# Altium integrated library National Semiconductor LDO.IntLib: 2675 symbols (part 36 of 65)
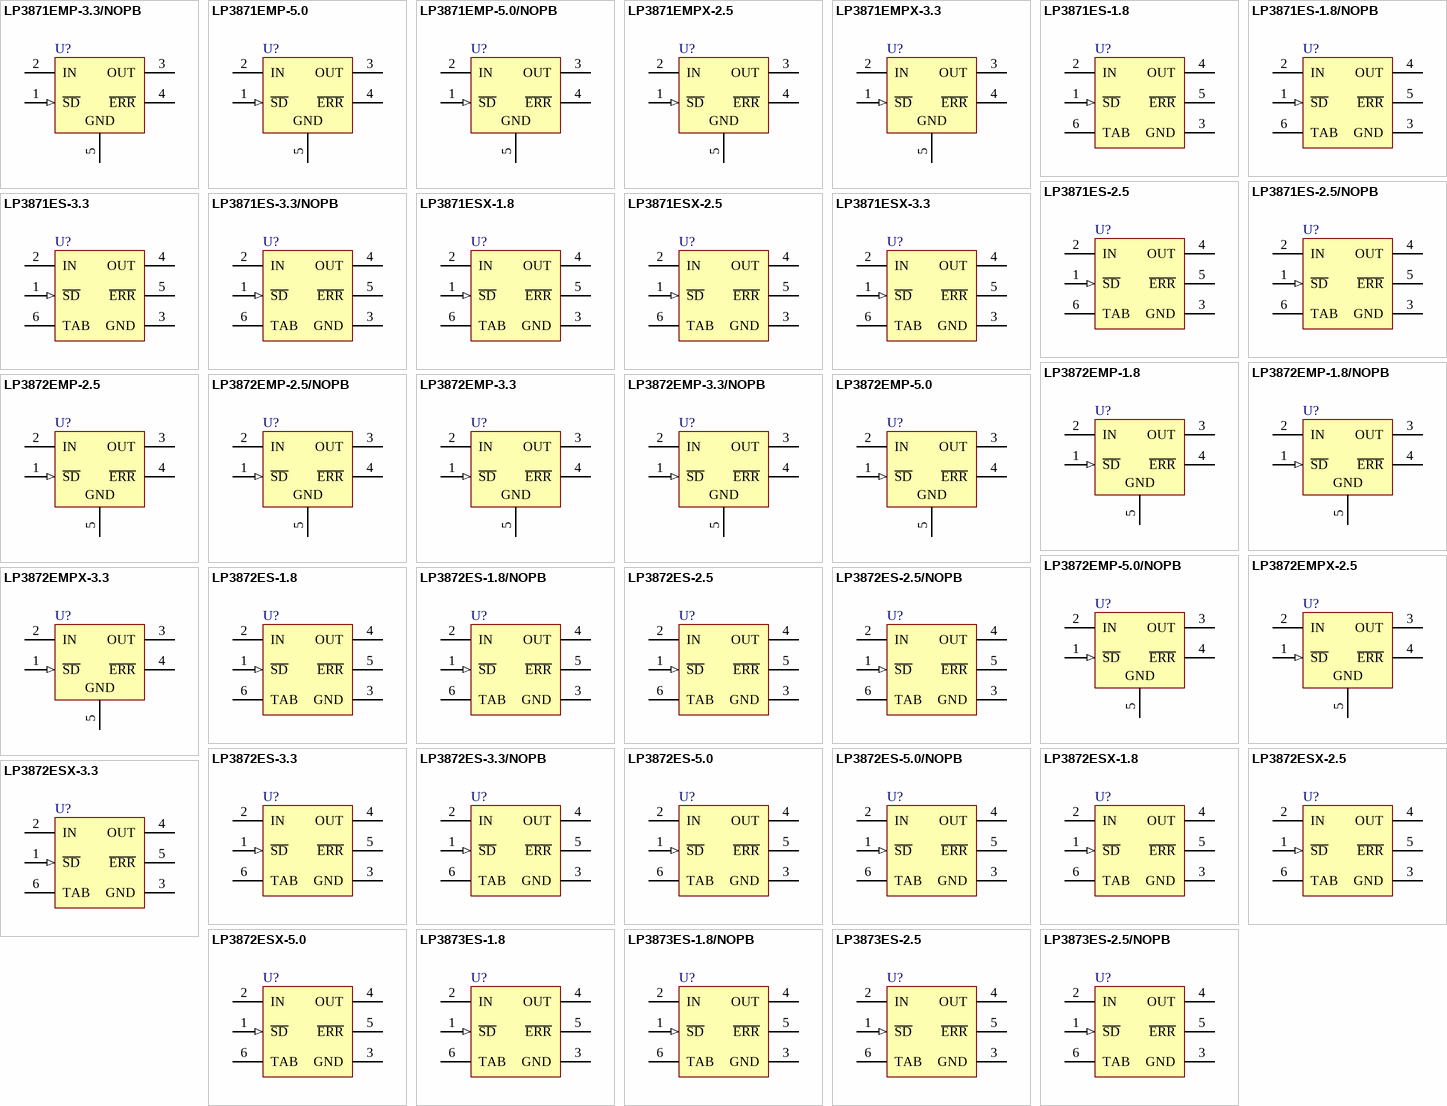
[diagram p102: symbols LP3871EMP-3.3/NOPB to LP3873ES-2.5/NOPB]

## LP3872ES-3.3
designator U?
1.5A Fast Ultra Low Dropout Linear Regulator, 5-pin TO-263; PartNumber: LP3872ES-3.3; Manufacturer: National Semiconductor; PackageTopMarking: NSUZXYTTE#*LP3872ES*-3.3; PowerWise: N; CompType: LDO IC; High-Reliability: Y; DatasheetVersion: Sep-2006; PackageVersion: revD, Apr-2005; PackageReference: TS5B; PackageDescription: TO-263, Molded, .400 x .390 x .180in, 5 Lead, .067in Pitch, Surface Mount; RoHS: N; PinCount: 5; Code_JEDEC: MO-169-AB; ComponentLink1Description: Manufacturer URL; ComponentLink1URL: http://www.national.com/; ComponentLink2Description: LP3872 Datasheet; ComponentLink2URL: http://www.national.com/ds/LP/LP3872.pdf; ComponentLink3Description: LP3872 Web Page; ComponentLink3URL: http://www.national.com/pf/LP/LP3872.html; ComponentLink4Description: TS5B Package Page; ComponentLink4URL: http://www.national.com/packaging/folders/ts5b.html
footprint TS5B_N (D2-PAK, 6-Leads, Body 8.6x10.2mm, Pitch 1.7mm, Lead Span 14.1mm, IPC Medium Density)
footprint TS5B_L (D2-PAK, 6-Leads, Body 8.6x10.2mm, Pitch 1.7mm, Lead Span 14.1mm, IPC High Density)
footprint TS5B_M (D2-PAK, 6-Leads, Body 8.6x10.2mm, Pitch 1.7mm, Lead Span 14.1mm, IPC Low Density)
pins: 1 ~{SD} (in), 2 IN (power), 3 GND (power), 4 OUT (power), 5 ~{ERR} (oc), 6 TAB (power)

## LP3872ES-3.3/NOPB
designator U?
1.5A Fast Ultra Low Dropout Linear Regulator, 5-pin TO-263, Pb-Free; PartNumber: LP3872ES-3.3/NOPB; Manufacturer: National Semiconductor; PackageTopMarking: NSUZXYTTE#*LP3872ES*-3.3; PowerWise: N; CompType: LDO IC; High-Reliability: Y; DatasheetVersion: Sep-2006; PackageVersion: revD, Apr-2005; PackageReference: TS5B; PackageDescription: TO-263, Molded, .400 x .390 x .180in, 5 Lead, .067in Pitch, Surface Mount; RoHS: Y; PinCount: 5; Code_JEDEC: MO-169-AB; ComponentLink1Description: Manufacturer URL; ComponentLink1URL: http://www.national.com/; ComponentLink2Description: LP3872 Datasheet; ComponentLink2URL: http://www.national.com/ds/LP/LP3872.pdf; ComponentLink3Description: LP3872 Web Page; ComponentLink3URL: http://www.national.com/pf/LP/LP3872.html; ComponentLink4Description: TS5B Package Page; ComponentLink4URL: http://www.national.com/packaging/folders/ts5b.html
footprint TS5B_N (D2-PAK, 6-Leads, Body 8.6x10.2mm, Pitch 1.7mm, Lead Span 14.1mm, IPC Medium Density)
footprint TS5B_L (D2-PAK, 6-Leads, Body 8.6x10.2mm, Pitch 1.7mm, Lead Span 14.1mm, IPC High Density)
footprint TS5B_M (D2-PAK, 6-Leads, Body 8.6x10.2mm, Pitch 1.7mm, Lead Span 14.1mm, IPC Low Density)
pins: 1 ~{SD} (in), 2 IN (power), 3 GND (power), 4 OUT (power), 5 ~{ERR} (oc), 6 TAB (power)

## LP3872ES-5.0
designator U?
1.5A Fast Ultra Low Dropout Linear Regulator, 5-pin TO-263; PartNumber: LP3872ES-5.0; Manufacturer: National Semiconductor; PackageTopMarking: NSUZXYTTE#*LP3872ES*-5.0; PowerWise: N; CompType: LDO IC; High-Reliability: Y; DatasheetVersion: Sep-2006; PackageVersion: revD, Apr-2005; PackageReference: TS5B; PackageDescription: TO-263, Molded, .400 x .390 x .180in, 5 Lead, .067in Pitch, Surface Mount; RoHS: N; PinCount: 5; Code_JEDEC: MO-169-AB; ComponentLink1Description: Manufacturer URL; ComponentLink1URL: http://www.national.com/; ComponentLink2Description: LP3872 Datasheet; ComponentLink2URL: http://www.national.com/ds/LP/LP3872.pdf; ComponentLink3Description: LP3872 Web Page; ComponentLink3URL: http://www.national.com/pf/LP/LP3872.html; ComponentLink4Description: TS5B Package Page; ComponentLink4URL: http://www.national.com/packaging/folders/ts5b.html
footprint TS5B_N (D2-PAK, 6-Leads, Body 8.6x10.2mm, Pitch 1.7mm, Lead Span 14.1mm, IPC Medium Density)
footprint TS5B_L (D2-PAK, 6-Leads, Body 8.6x10.2mm, Pitch 1.7mm, Lead Span 14.1mm, IPC High Density)
footprint TS5B_M (D2-PAK, 6-Leads, Body 8.6x10.2mm, Pitch 1.7mm, Lead Span 14.1mm, IPC Low Density)
pins: 1 ~{SD} (in), 2 IN (power), 3 GND (power), 4 OUT (power), 5 ~{ERR} (oc), 6 TAB (power)

## LP3872ES-5.0/NOPB
designator U?
1.5A Fast Ultra Low Dropout Linear Regulator, 5-pin TO-263, Pb-Free; PartNumber: LP3872ES-5.0/NOPB; Manufacturer: National Semiconductor; PackageTopMarking: NSUZXYTTE#*LP3872ES*-5.0; PowerWise: N; CompType: LDO IC; High-Reliability: Y; DatasheetVersion: Sep-2006; PackageVersion: revD, Apr-2005; PackageReference: TS5B; PackageDescription: TO-263, Molded, .400 x .390 x .180in, 5 Lead, .067in Pitch, Surface Mount; RoHS: Y; PinCount: 5; Code_JEDEC: MO-169-AB; ComponentLink1Description: Manufacturer URL; ComponentLink1URL: http://www.national.com/; ComponentLink2Description: LP3872 Datasheet; ComponentLink2URL: http://www.national.com/ds/LP/LP3872.pdf; ComponentLink3Description: LP3872 Web Page; ComponentLink3URL: http://www.national.com/pf/LP/LP3872.html; ComponentLink4Description: TS5B Package Page; ComponentLink4URL: http://www.national.com/packaging/folders/ts5b.html
footprint TS5B_N (D2-PAK, 6-Leads, Body 8.6x10.2mm, Pitch 1.7mm, Lead Span 14.1mm, IPC Medium Density)
footprint TS5B_L (D2-PAK, 6-Leads, Body 8.6x10.2mm, Pitch 1.7mm, Lead Span 14.1mm, IPC High Density)
footprint TS5B_M (D2-PAK, 6-Leads, Body 8.6x10.2mm, Pitch 1.7mm, Lead Span 14.1mm, IPC Low Density)
pins: 1 ~{SD} (in), 2 IN (power), 3 GND (power), 4 OUT (power), 5 ~{ERR} (oc), 6 TAB (power)

## LP3872ESX-1.8
designator U?
1.5A Fast Ultra Low Dropout Linear Regulator, 5-pin TO-263; PartNumber: LP3872ESX-1.8; Manufacturer: National Semiconductor; PackageTopMarking: NSUZXYTTE#*LP3872ES*-1.8; PowerWise: N; CompType: LDO IC; High-Reliability: Y; DatasheetVersion: Sep-2006; PackageVersion: revD, Apr-2005; PackageReference: TS5B; PackageDescription: TO-263, Molded, .400 x .390 x .180in, 5 Lead, .067in Pitch, Surface Mount; RoHS: N; PinCount: 5; Code_JEDEC: MO-169-AB; ComponentLink1Description: Manufacturer URL; ComponentLink1URL: http://www.national.com/; ComponentLink2Description: LP3872 Datasheet; ComponentLink2URL: http://www.national.com/ds/LP/LP3872.pdf; ComponentLink3Description: LP3872 Web Page; ComponentLink3URL: http://www.national.com/pf/LP/LP3872.html; ComponentLink4Description: TS5B Package Page; ComponentLink4URL: http://www.national.com/packaging/folders/ts5b.html
footprint TS5B_N (D2-PAK, 6-Leads, Body 8.6x10.2mm, Pitch 1.7mm, Lead Span 14.1mm, IPC Medium Density)
footprint TS5B_L (D2-PAK, 6-Leads, Body 8.6x10.2mm, Pitch 1.7mm, Lead Span 14.1mm, IPC High Density)
footprint TS5B_M (D2-PAK, 6-Leads, Body 8.6x10.2mm, Pitch 1.7mm, Lead Span 14.1mm, IPC Low Density)
pins: 1 ~{SD} (in), 2 IN (power), 3 GND (power), 4 OUT (power), 5 ~{ERR} (oc), 6 TAB (power)

## LP3872ESX-2.5
designator U?
1.5A Fast Ultra Low Dropout Linear Regulator, 5-pin TO-263; PartNumber: LP3872ESX-2.5; Manufacturer: National Semiconductor; PackageTopMarking: NSUZXYTTE#*LP3872ES*-2.5; PowerWise: N; CompType: LDO IC; High-Reliability: Y; DatasheetVersion: Sep-2006; PackageVersion: revD, Apr-2005; PackageReference: TS5B; PackageDescription: TO-263, Molded, .400 x .390 x .180in, 5 Lead, .067in Pitch, Surface Mount; RoHS: N; PinCount: 5; Code_JEDEC: MO-169-AB; ComponentLink1Description: Manufacturer URL; ComponentLink1URL: http://www.national.com/; ComponentLink2Description: LP3872 Datasheet; ComponentLink2URL: http://www.national.com/ds/LP/LP3872.pdf; ComponentLink3Description: LP3872 Web Page; ComponentLink3URL: http://www.national.com/pf/LP/LP3872.html; ComponentLink4Description: TS5B Package Page; ComponentLink4URL: http://www.national.com/packaging/folders/ts5b.html
footprint TS5B_N (D2-PAK, 6-Leads, Body 8.6x10.2mm, Pitch 1.7mm, Lead Span 14.1mm, IPC Medium Density)
footprint TS5B_L (D2-PAK, 6-Leads, Body 8.6x10.2mm, Pitch 1.7mm, Lead Span 14.1mm, IPC High Density)
footprint TS5B_M (D2-PAK, 6-Leads, Body 8.6x10.2mm, Pitch 1.7mm, Lead Span 14.1mm, IPC Low Density)
pins: 1 ~{SD} (in), 2 IN (power), 3 GND (power), 4 OUT (power), 5 ~{ERR} (oc), 6 TAB (power)

## LP3872ESX-3.3
designator U?
1.5A Fast Ultra Low Dropout Linear Regulator, 5-pin TO-263; PartNumber: LP3872ESX-3.3; Manufacturer: National Semiconductor; PackageTopMarking: NSUZXYTTE#*LP3872ES*-3.3; PowerWise: N; CompType: LDO IC; High-Reliability: Y; DatasheetVersion: Sep-2006; PackageVersion: revD, Apr-2005; PackageReference: TS5B; PackageDescription: TO-263, Molded, .400 x .390 x .180in, 5 Lead, .067in Pitch, Surface Mount; RoHS: N; PinCount: 5; Code_JEDEC: MO-169-AB; ComponentLink1Description: Manufacturer URL; ComponentLink1URL: http://www.national.com/; ComponentLink2Description: LP3872 Datasheet; ComponentLink2URL: http://www.national.com/ds/LP/LP3872.pdf; ComponentLink3Description: LP3872 Web Page; ComponentLink3URL: http://www.national.com/pf/LP/LP3872.html; ComponentLink4Description: TS5B Package Page; ComponentLink4URL: http://www.national.com/packaging/folders/ts5b.html
footprint TS5B_N (D2-PAK, 6-Leads, Body 8.6x10.2mm, Pitch 1.7mm, Lead Span 14.1mm, IPC Medium Density)
footprint TS5B_L (D2-PAK, 6-Leads, Body 8.6x10.2mm, Pitch 1.7mm, Lead Span 14.1mm, IPC High Density)
footprint TS5B_M (D2-PAK, 6-Leads, Body 8.6x10.2mm, Pitch 1.7mm, Lead Span 14.1mm, IPC Low Density)
pins: 1 ~{SD} (in), 2 IN (power), 3 GND (power), 4 OUT (power), 5 ~{ERR} (oc), 6 TAB (power)

## LP3872ESX-5.0
designator U?
1.5A Fast Ultra Low Dropout Linear Regulator, 5-pin TO-263; PartNumber: LP3872ESX-5.0; Manufacturer: National Semiconductor; PackageTopMarking: NSUZXYTTE#*LP3872ES*-5.0; PowerWise: N; CompType: LDO IC; High-Reliability: Y; DatasheetVersion: Sep-2006; PackageVersion: revD, Apr-2005; PackageReference: TS5B; PackageDescription: TO-263, Molded, .400 x .390 x .180in, 5 Lead, .067in Pitch, Surface Mount; RoHS: N; PinCount: 5; Code_JEDEC: MO-169-AB; ComponentLink1Description: Manufacturer URL; ComponentLink1URL: http://www.national.com/; ComponentLink2Description: LP3872 Datasheet; ComponentLink2URL: http://www.national.com/ds/LP/LP3872.pdf; ComponentLink3Description: LP3872 Web Page; ComponentLink3URL: http://www.national.com/pf/LP/LP3872.html; ComponentLink4Description: TS5B Package Page; ComponentLink4URL: http://www.national.com/packaging/folders/ts5b.html
footprint TS5B_N (D2-PAK, 6-Leads, Body 8.6x10.2mm, Pitch 1.7mm, Lead Span 14.1mm, IPC Medium Density)
footprint TS5B_L (D2-PAK, 6-Leads, Body 8.6x10.2mm, Pitch 1.7mm, Lead Span 14.1mm, IPC High Density)
footprint TS5B_M (D2-PAK, 6-Leads, Body 8.6x10.2mm, Pitch 1.7mm, Lead Span 14.1mm, IPC Low Density)
pins: 1 ~{SD} (in), 2 IN (power), 3 GND (power), 4 OUT (power), 5 ~{ERR} (oc), 6 TAB (power)

## LP3873ES-1.8
designator U?
3A Fast Ultra Low Dropout Linear Regulator, 5-pin TO-263; PartNumber: LP3873ES-1.8; Manufacturer: National Semiconductor; PackageTopMarking: NSUZXYTTE#*LP3873ES*-1.8; PowerWise: N; CompType: LDO IC; High-Reliability: Y; DatasheetVersion: Sep-2006; PackageVersion: revD, Apr-2005; PackageReference: TS5B; PackageDescription: TO-263, Molded, .400 x .390 x .180in, 5 Lead, .067in Pitch, Surface Mount; RoHS: N; PinCount: 5; Code_JEDEC: MO-169-AB; ComponentLink1Description: Manufacturer URL; ComponentLink1URL: http://www.national.com/; ComponentLink2Description: LP3873 Datasheet; ComponentLink2URL: http://www.national.com/ds/LP/LP3873.pdf; ComponentLink3Description: LP3873 Web Page; ComponentLink3URL: http://www.national.com/pf/LP/LP3873.html; ComponentLink4Description: TS5B Package Page; ComponentLink4URL: http://www.national.com/packaging/folders/ts5b.html
footprint TS5B_N (D2-PAK, 6-Leads, Body 8.6x10.2mm, Pitch 1.7mm, Lead Span 14.1mm, IPC Medium Density)
footprint TS5B_L (D2-PAK, 6-Leads, Body 8.6x10.2mm, Pitch 1.7mm, Lead Span 14.1mm, IPC High Density)
footprint TS5B_M (D2-PAK, 6-Leads, Body 8.6x10.2mm, Pitch 1.7mm, Lead Span 14.1mm, IPC Low Density)
pins: 1 ~{SD} (in), 2 IN (power), 3 GND (power), 4 OUT (power), 5 ~{ERR} (oc), 6 TAB (power)

## LP3873ES-1.8/NOPB
designator U?
3A Fast Ultra Low Dropout Linear Regulator, 5-pin TO-263, Pb-Free; PartNumber: LP3873ES-1.8/NOPB; Manufacturer: National Semiconductor; PackageTopMarking: NSUZXYTTE#*LP3873ES*-1.8; PowerWise: N; CompType: LDO IC; High-Reliability: Y; DatasheetVersion: Sep-2006; PackageVersion: revD, Apr-2005; PackageReference: TS5B; PackageDescription: TO-263, Molded, .400 x .390 x .180in, 5 Lead, .067in Pitch, Surface Mount; RoHS: Y; PinCount: 5; Code_JEDEC: MO-169-AB; ComponentLink1Description: Manufacturer URL; ComponentLink1URL: http://www.national.com/; ComponentLink2Description: LP3873 Datasheet; ComponentLink2URL: http://www.national.com/ds/LP/LP3873.pdf; ComponentLink3Description: LP3873 Web Page; ComponentLink3URL: http://www.national.com/pf/LP/LP3873.html; ComponentLink4Description: TS5B Package Page; ComponentLink4URL: http://www.national.com/packaging/folders/ts5b.html
footprint TS5B_N (D2-PAK, 6-Leads, Body 8.6x10.2mm, Pitch 1.7mm, Lead Span 14.1mm, IPC Medium Density)
footprint TS5B_L (D2-PAK, 6-Leads, Body 8.6x10.2mm, Pitch 1.7mm, Lead Span 14.1mm, IPC High Density)
footprint TS5B_M (D2-PAK, 6-Leads, Body 8.6x10.2mm, Pitch 1.7mm, Lead Span 14.1mm, IPC Low Density)
pins: 1 ~{SD} (in), 2 IN (power), 3 GND (power), 4 OUT (power), 5 ~{ERR} (oc), 6 TAB (power)

## LP3873ES-2.5
designator U?
3A Fast Ultra Low Dropout Linear Regulator, 5-pin TO-263; PartNumber: LP3873ES-2.5; Manufacturer: National Semiconductor; PackageTopMarking: NSUZXYTTE#*LP3873ES*-2.5; PowerWise: N; CompType: LDO IC; High-Reliability: Y; DatasheetVersion: Sep-2006; PackageVersion: revD, Apr-2005; PackageReference: TS5B; PackageDescription: TO-263, Molded, .400 x .390 x .180in, 5 Lead, .067in Pitch, Surface Mount; RoHS: N; PinCount: 5; Code_JEDEC: MO-169-AB; ComponentLink1Description: Manufacturer URL; ComponentLink1URL: http://www.national.com/; ComponentLink2Description: LP3873 Datasheet; ComponentLink2URL: http://www.national.com/ds/LP/LP3873.pdf; ComponentLink3Description: LP3873 Web Page; ComponentLink3URL: http://www.national.com/pf/LP/LP3873.html; ComponentLink4Description: TS5B Package Page; ComponentLink4URL: http://www.national.com/packaging/folders/ts5b.html
footprint TS5B_N (D2-PAK, 6-Leads, Body 8.6x10.2mm, Pitch 1.7mm, Lead Span 14.1mm, IPC Medium Density)
footprint TS5B_L (D2-PAK, 6-Leads, Body 8.6x10.2mm, Pitch 1.7mm, Lead Span 14.1mm, IPC High Density)
footprint TS5B_M (D2-PAK, 6-Leads, Body 8.6x10.2mm, Pitch 1.7mm, Lead Span 14.1mm, IPC Low Density)
pins: 1 ~{SD} (in), 2 IN (power), 3 GND (power), 4 OUT (power), 5 ~{ERR} (oc), 6 TAB (power)

## LP3873ES-2.5/NOPB
designator U?
3A Fast Ultra Low Dropout Linear Regulator, 5-pin TO-263, Pb-Free; PartNumber: LP3873ES-2.5/NOPB; Manufacturer: National Semiconductor; PackageTopMarking: NSUZXYTTE#*LP3873ES*-2.5; PowerWise: N; CompType: LDO IC; High-Reliability: Y; DatasheetVersion: Sep-2006; PackageVersion: revD, Apr-2005; PackageReference: TS5B; PackageDescription: TO-263, Molded, .400 x .390 x .180in, 5 Lead, .067in Pitch, Surface Mount; RoHS: Y; PinCount: 5; Code_JEDEC: MO-169-AB; ComponentLink1Description: Manufacturer URL; ComponentLink1URL: http://www.national.com/; ComponentLink2Description: LP3873 Datasheet; ComponentLink2URL: http://www.national.com/ds/LP/LP3873.pdf; ComponentLink3Description: LP3873 Web Page; ComponentLink3URL: http://www.national.com/pf/LP/LP3873.html; ComponentLink4Description: TS5B Package Page; ComponentLink4URL: http://www.national.com/packaging/folders/ts5b.html
footprint TS5B_N (D2-PAK, 6-Leads, Body 8.6x10.2mm, Pitch 1.7mm, Lead Span 14.1mm, IPC Medium Density)
footprint TS5B_L (D2-PAK, 6-Leads, Body 8.6x10.2mm, Pitch 1.7mm, Lead Span 14.1mm, IPC High Density)
footprint TS5B_M (D2-PAK, 6-Leads, Body 8.6x10.2mm, Pitch 1.7mm, Lead Span 14.1mm, IPC Low Density)
pins: 1 ~{SD} (in), 2 IN (power), 3 GND (power), 4 OUT (power), 5 ~{ERR} (oc), 6 TAB (power)

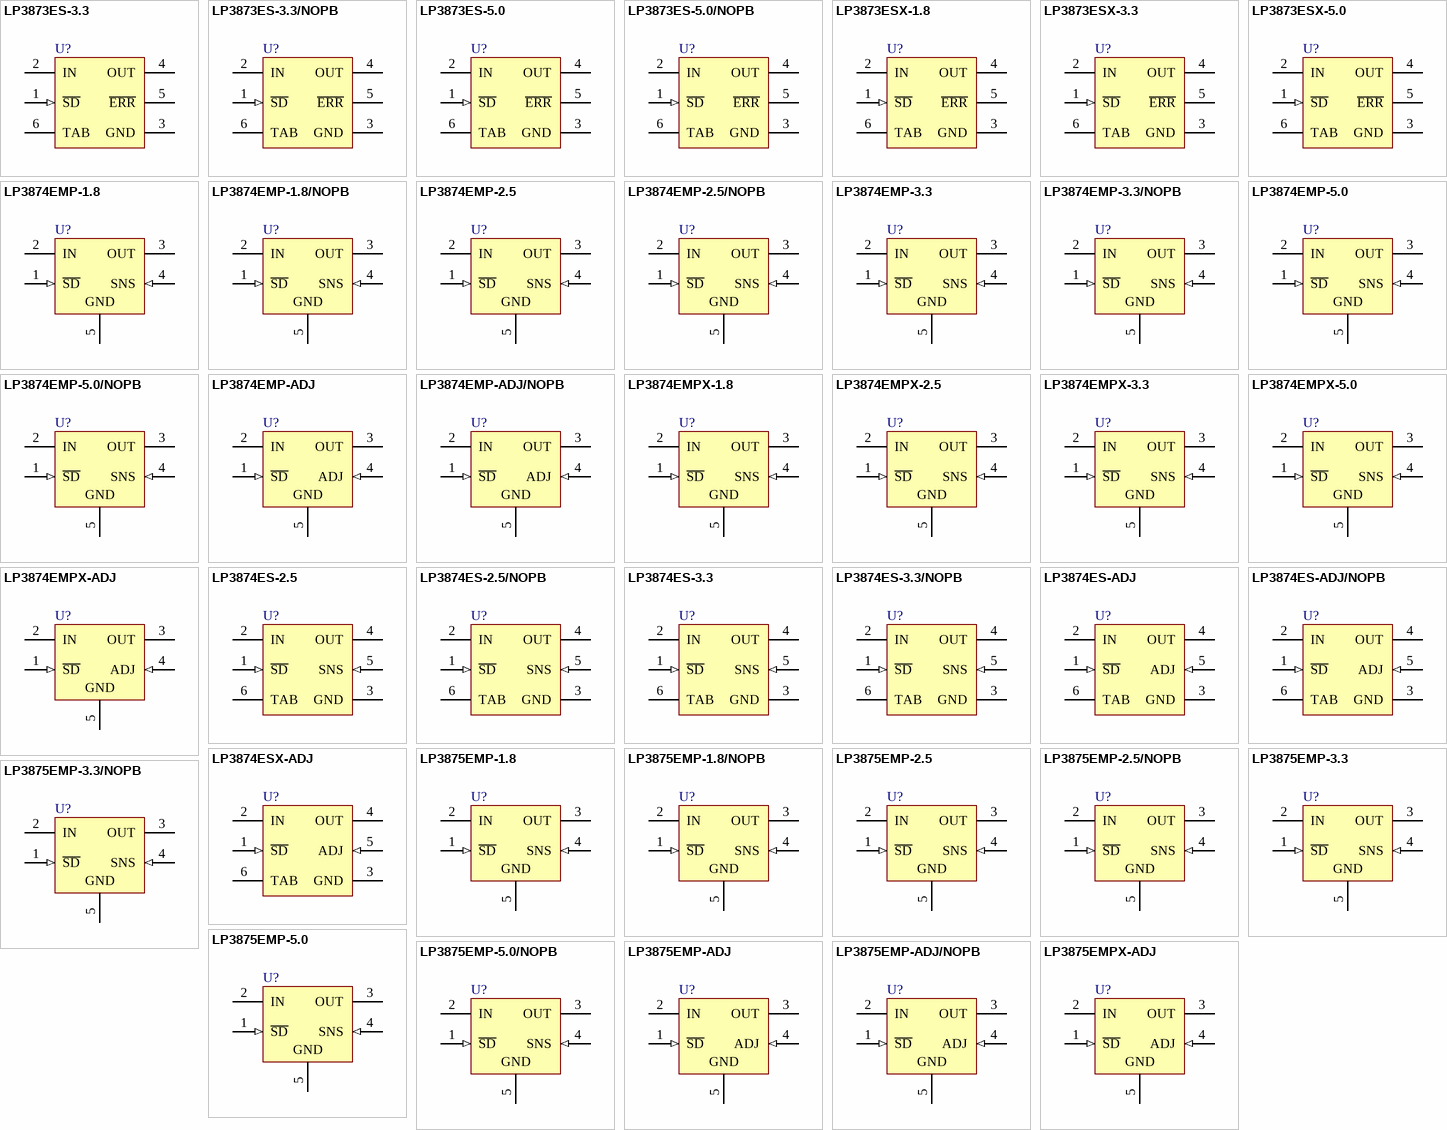
[diagram p37: symbols LP3873ES-3.3 to LP3875EMPX-ADJ]

## LP3873ES-3.3
designator U?
3A Fast Ultra Low Dropout Linear Regulator, 5-pin TO-263; PartNumber: LP3873ES-3.3; Manufacturer: National Semiconductor; PackageTopMarking: NSUZXYTTE#*LP3873ES*-3.3; PowerWise: N; CompType: LDO IC; High-Reliability: Y; DatasheetVersion: Sep-2006; PackageVersion: revD, Apr-2005; PackageReference: TS5B; PackageDescription: TO-263, Molded, .400 x .390 x .180in, 5 Lead, .067in Pitch, Surface Mount; RoHS: N; PinCount: 5; Code_JEDEC: MO-169-AB; ComponentLink1Description: Manufacturer URL; ComponentLink1URL: http://www.national.com/; ComponentLink2Description: LP3873 Datasheet; ComponentLink2URL: http://www.national.com/ds/LP/LP3873.pdf; ComponentLink3Description: LP3873 Web Page; ComponentLink3URL: http://www.national.com/pf/LP/LP3873.html; ComponentLink4Description: TS5B Package Page; ComponentLink4URL: http://www.national.com/packaging/folders/ts5b.html
footprint TS5B_N (D2-PAK, 6-Leads, Body 8.6x10.2mm, Pitch 1.7mm, Lead Span 14.1mm, IPC Medium Density)
footprint TS5B_L (D2-PAK, 6-Leads, Body 8.6x10.2mm, Pitch 1.7mm, Lead Span 14.1mm, IPC High Density)
footprint TS5B_M (D2-PAK, 6-Leads, Body 8.6x10.2mm, Pitch 1.7mm, Lead Span 14.1mm, IPC Low Density)
pins: 1 ~{SD} (in), 2 IN (power), 3 GND (power), 4 OUT (power), 5 ~{ERR} (oc), 6 TAB (power)

## LP3873ES-3.3/NOPB
designator U?
3A Fast Ultra Low Dropout Linear Regulator, 5-pin TO-263, Pb-Free; PartNumber: LP3873ES-3.3/NOPB; Manufacturer: National Semiconductor; PackageTopMarking: NSUZXYTTE#*LP3873ES*-3.3; PowerWise: N; CompType: LDO IC; High-Reliability: Y; DatasheetVersion: Sep-2006; PackageVersion: revD, Apr-2005; PackageReference: TS5B; PackageDescription: TO-263, Molded, .400 x .390 x .180in, 5 Lead, .067in Pitch, Surface Mount; RoHS: Y; PinCount: 5; Code_JEDEC: MO-169-AB; ComponentLink1Description: Manufacturer URL; ComponentLink1URL: http://www.national.com/; ComponentLink2Description: LP3873 Datasheet; ComponentLink2URL: http://www.national.com/ds/LP/LP3873.pdf; ComponentLink3Description: LP3873 Web Page; ComponentLink3URL: http://www.national.com/pf/LP/LP3873.html; ComponentLink4Description: TS5B Package Page; ComponentLink4URL: http://www.national.com/packaging/folders/ts5b.html
footprint TS5B_N (D2-PAK, 6-Leads, Body 8.6x10.2mm, Pitch 1.7mm, Lead Span 14.1mm, IPC Medium Density)
footprint TS5B_L (D2-PAK, 6-Leads, Body 8.6x10.2mm, Pitch 1.7mm, Lead Span 14.1mm, IPC High Density)
footprint TS5B_M (D2-PAK, 6-Leads, Body 8.6x10.2mm, Pitch 1.7mm, Lead Span 14.1mm, IPC Low Density)
pins: 1 ~{SD} (in), 2 IN (power), 3 GND (power), 4 OUT (power), 5 ~{ERR} (oc), 6 TAB (power)

## LP3873ES-5.0
designator U?
3A Fast Ultra Low Dropout Linear Regulator, 5-pin TO-263; PartNumber: LP3873ES-5.0; Manufacturer: National Semiconductor; PackageTopMarking: NSUZXYTTE#*LP3873ES*-5.0; PowerWise: N; CompType: LDO IC; High-Reliability: Y; DatasheetVersion: Sep-2006; PackageVersion: revD, Apr-2005; PackageReference: TS5B; PackageDescription: TO-263, Molded, .400 x .390 x .180in, 5 Lead, .067in Pitch, Surface Mount; RoHS: N; PinCount: 5; Code_JEDEC: MO-169-AB; ComponentLink1Description: Manufacturer URL; ComponentLink1URL: http://www.national.com/; ComponentLink2Description: LP3873 Datasheet; ComponentLink2URL: http://www.national.com/ds/LP/LP3873.pdf; ComponentLink3Description: LP3873 Web Page; ComponentLink3URL: http://www.national.com/pf/LP/LP3873.html; ComponentLink4Description: TS5B Package Page; ComponentLink4URL: http://www.national.com/packaging/folders/ts5b.html
footprint TS5B_N (D2-PAK, 6-Leads, Body 8.6x10.2mm, Pitch 1.7mm, Lead Span 14.1mm, IPC Medium Density)
footprint TS5B_L (D2-PAK, 6-Leads, Body 8.6x10.2mm, Pitch 1.7mm, Lead Span 14.1mm, IPC High Density)
footprint TS5B_M (D2-PAK, 6-Leads, Body 8.6x10.2mm, Pitch 1.7mm, Lead Span 14.1mm, IPC Low Density)
pins: 1 ~{SD} (in), 2 IN (power), 3 GND (power), 4 OUT (power), 5 ~{ERR} (oc), 6 TAB (power)

## LP3873ES-5.0/NOPB
designator U?
3A Fast Ultra Low Dropout Linear Regulator, 5-pin TO-263, Pb-Free; PartNumber: LP3873ES-5.0/NOPB; Manufacturer: National Semiconductor; PackageTopMarking: NSUZXYTTE#*LP3873ES*-5.0; PowerWise: N; CompType: LDO IC; High-Reliability: Y; DatasheetVersion: Sep-2006; PackageVersion: revD, Apr-2005; PackageReference: TS5B; PackageDescription: TO-263, Molded, .400 x .390 x .180in, 5 Lead, .067in Pitch, Surface Mount; RoHS: Y; PinCount: 5; Code_JEDEC: MO-169-AB; ComponentLink1Description: Manufacturer URL; ComponentLink1URL: http://www.national.com/; ComponentLink2Description: LP3873 Datasheet; ComponentLink2URL: http://www.national.com/ds/LP/LP3873.pdf; ComponentLink3Description: LP3873 Web Page; ComponentLink3URL: http://www.national.com/pf/LP/LP3873.html; ComponentLink4Description: TS5B Package Page; ComponentLink4URL: http://www.national.com/packaging/folders/ts5b.html
footprint TS5B_N (D2-PAK, 6-Leads, Body 8.6x10.2mm, Pitch 1.7mm, Lead Span 14.1mm, IPC Medium Density)
footprint TS5B_L (D2-PAK, 6-Leads, Body 8.6x10.2mm, Pitch 1.7mm, Lead Span 14.1mm, IPC High Density)
footprint TS5B_M (D2-PAK, 6-Leads, Body 8.6x10.2mm, Pitch 1.7mm, Lead Span 14.1mm, IPC Low Density)
pins: 1 ~{SD} (in), 2 IN (power), 3 GND (power), 4 OUT (power), 5 ~{ERR} (oc), 6 TAB (power)

## LP3873ESX-1.8
designator U?
3A Fast Ultra Low Dropout Linear Regulator, 5-pin TO-263; PartNumber: LP3873ESX-1.8; Manufacturer: National Semiconductor; PackageTopMarking: NSUZXYTTE#*LP3873ES*-1.8; PowerWise: N; CompType: LDO IC; High-Reliability: Y; DatasheetVersion: Sep-2006; PackageVersion: revD, Apr-2005; PackageReference: TS5B; PackageDescription: TO-263, Molded, .400 x .390 x .180in, 5 Lead, .067in Pitch, Surface Mount; RoHS: N; PinCount: 5; Code_JEDEC: MO-169-AB; ComponentLink1Description: Manufacturer URL; ComponentLink1URL: http://www.national.com/; ComponentLink2Description: LP3873 Datasheet; ComponentLink2URL: http://www.national.com/ds/LP/LP3873.pdf; ComponentLink3Description: LP3873 Web Page; ComponentLink3URL: http://www.national.com/pf/LP/LP3873.html; ComponentLink4Description: TS5B Package Page; ComponentLink4URL: http://www.national.com/packaging/folders/ts5b.html
footprint TS5B_N (D2-PAK, 6-Leads, Body 8.6x10.2mm, Pitch 1.7mm, Lead Span 14.1mm, IPC Medium Density)
footprint TS5B_L (D2-PAK, 6-Leads, Body 8.6x10.2mm, Pitch 1.7mm, Lead Span 14.1mm, IPC High Density)
footprint TS5B_M (D2-PAK, 6-Leads, Body 8.6x10.2mm, Pitch 1.7mm, Lead Span 14.1mm, IPC Low Density)
pins: 1 ~{SD} (in), 2 IN (power), 3 GND (power), 4 OUT (power), 5 ~{ERR} (oc), 6 TAB (power)

## LP3873ESX-3.3
designator U?
3A Fast Ultra Low Dropout Linear Regulator, 5-pin TO-263; PartNumber: LP3873ESX-3.3; Manufacturer: National Semiconductor; PackageTopMarking: NSUZXYTTE#*LP3873ES*-3.3; PowerWise: N; CompType: LDO IC; High-Reliability: Y; DatasheetVersion: Sep-2006; PackageVersion: revD, Apr-2005; PackageReference: TS5B; PackageDescription: TO-263, Molded, .400 x .390 x .180in, 5 Lead, .067in Pitch, Surface Mount; RoHS: N; PinCount: 5; Code_JEDEC: MO-169-AB; ComponentLink1Description: Manufacturer URL; ComponentLink1URL: http://www.national.com/; ComponentLink2Description: LP3873 Datasheet; ComponentLink2URL: http://www.national.com/ds/LP/LP3873.pdf; ComponentLink3Description: LP3873 Web Page; ComponentLink3URL: http://www.national.com/pf/LP/LP3873.html; ComponentLink4Description: TS5B Package Page; ComponentLink4URL: http://www.national.com/packaging/folders/ts5b.html
footprint TS5B_N (D2-PAK, 6-Leads, Body 8.6x10.2mm, Pitch 1.7mm, Lead Span 14.1mm, IPC Medium Density)
footprint TS5B_L (D2-PAK, 6-Leads, Body 8.6x10.2mm, Pitch 1.7mm, Lead Span 14.1mm, IPC High Density)
footprint TS5B_M (D2-PAK, 6-Leads, Body 8.6x10.2mm, Pitch 1.7mm, Lead Span 14.1mm, IPC Low Density)
pins: 1 ~{SD} (in), 2 IN (power), 3 GND (power), 4 OUT (power), 5 ~{ERR} (oc), 6 TAB (power)

## LP3873ESX-5.0
designator U?
3A Fast Ultra Low Dropout Linear Regulator, 5-pin TO-263; PartNumber: LP3873ESX-5.0; Manufacturer: National Semiconductor; PackageTopMarking: NSUZXYTTE#*LP3873ES*-5.0; PowerWise: N; CompType: LDO IC; High-Reliability: Y; DatasheetVersion: Sep-2006; PackageVersion: revD, Apr-2005; PackageReference: TS5B; PackageDescription: TO-263, Molded, .400 x .390 x .180in, 5 Lead, .067in Pitch, Surface Mount; RoHS: N; PinCount: 5; Code_JEDEC: MO-169-AB; ComponentLink1Description: Manufacturer URL; ComponentLink1URL: http://www.national.com/; ComponentLink2Description: LP3873 Datasheet; ComponentLink2URL: http://www.national.com/ds/LP/LP3873.pdf; ComponentLink3Description: LP3873 Web Page; ComponentLink3URL: http://www.national.com/pf/LP/LP3873.html; ComponentLink4Description: TS5B Package Page; ComponentLink4URL: http://www.national.com/packaging/folders/ts5b.html
footprint TS5B_N (D2-PAK, 6-Leads, Body 8.6x10.2mm, Pitch 1.7mm, Lead Span 14.1mm, IPC Medium Density)
footprint TS5B_L (D2-PAK, 6-Leads, Body 8.6x10.2mm, Pitch 1.7mm, Lead Span 14.1mm, IPC High Density)
footprint TS5B_M (D2-PAK, 6-Leads, Body 8.6x10.2mm, Pitch 1.7mm, Lead Span 14.1mm, IPC Low Density)
pins: 1 ~{SD} (in), 2 IN (power), 3 GND (power), 4 OUT (power), 5 ~{ERR} (oc), 6 TAB (power)

## LP3874EMP-1.8
designator U?
0.8A Fast Ultra Low Dropout Linear Regulators, 5-pin SOT-223; PartNumber: LP3874EMP-1.8; Manufacturer: National Semiconductor; PackageTopMarking: XYTT*LHEB; PowerWise: N; CompType: LDO IC; High-Reliability: Y; DatasheetVersion: Sep-2006; PackageVersion: revA, Jan-2000; PackageReference: MP05A; PackageDescription: Moldec SOT-223, 6.50 x 3.56 x 1.6mm Body, 5 Lead, 1.5mm Pitch; RoHS: N; PinCount: 5; Code_JEDEC: TO-261-AB; Code_IPC: SOT223-5; ComponentLink1Description: Manufacturer URL; ComponentLink1URL: http://www.national.com/; ComponentLink2Description: LP3874 Datasheet; ComponentLink2URL: http://www.national.com/ds/LP/LP3874.pdf; ComponentLink3Description: LP3874 Web Page; ComponentLink3URL: http://www.national.com/pf/LP/LP3874.html; ComponentLink4Description: MP05A Package Page; ComponentLink4URL: http://www.national.com/packaging/folders/mp05a.html
footprint MP05A_N (SOT223, 5-Leads, Body 6.5x3.5mm, Pitch 1.5mm, Lead Span 7mm, IPC Medium Density)
footprint MP05A_L (SOT223, 5-Leads, Body 6.5x3.5mm, Pitch 1.5mm, Lead Span 7mm, IPC High Density)
footprint MP05A_M (SOT223, 5-Leads, Body 6.5x3.5mm, Pitch 1.5mm, Lead Span 7mm, IPC Low Density)
pins: 1 ~{SD} (in), 2 IN (power), 3 OUT (power), 4 SNS (in), 5 GND (power)

## LP3874EMP-1.8/NOPB
designator U?
0.8A Fast Ultra Low Dropout Linear Regulators, 5-pin SOT-223, Pb-Free; PartNumber: LP3874EMP-1.8/NOPB; Manufacturer: National Semiconductor; PackageTopMarking: XYTT*LHEB; PowerWise: N; CompType: LDO IC; High-Reliability: Y; DatasheetVersion: Sep-2006; PackageVersion: revA, Jan-2000; PackageReference: MP05A; PackageDescription: Moldec SOT-223, 6.50 x 3.56 x 1.6mm Body, 5 Lead, 1.5mm Pitch; RoHS: Y; PinCount: 5; Code_JEDEC: TO-261-AB; Code_IPC: SOT223-5; ComponentLink1Description: Manufacturer URL; ComponentLink1URL: http://www.national.com/; ComponentLink2Description: LP3874 Datasheet; ComponentLink2URL: http://www.national.com/ds/LP/LP3874.pdf; ComponentLink3Description: LP3874 Web Page; ComponentLink3URL: http://www.national.com/pf/LP/LP3874.html; ComponentLink4Description: MP05A Package Page; ComponentLink4URL: http://www.national.com/packaging/folders/mp05a.html
footprint MP05A_N (SOT223, 5-Leads, Body 6.5x3.5mm, Pitch 1.5mm, Lead Span 7mm, IPC Medium Density)
footprint MP05A_L (SOT223, 5-Leads, Body 6.5x3.5mm, Pitch 1.5mm, Lead Span 7mm, IPC High Density)
footprint MP05A_M (SOT223, 5-Leads, Body 6.5x3.5mm, Pitch 1.5mm, Lead Span 7mm, IPC Low Density)
pins: 1 ~{SD} (in), 2 IN (power), 3 OUT (power), 4 SNS (in), 5 GND (power)

## LP3874EMP-2.5
designator U?
0.8A Fast Ultra Low Dropout Linear Regulators, 5-pin SOT-223; PartNumber: LP3874EMP-2.5; Manufacturer: National Semiconductor; PackageTopMarking: XYTT*LHFB; PowerWise: N; CompType: LDO IC; High-Reliability: Y; DatasheetVersion: Sep-2006; PackageVersion: revA, Jan-2000; PackageReference: MP05A; PackageDescription: Moldec SOT-223, 6.50 x 3.56 x 1.6mm Body, 5 Lead, 1.5mm Pitch; RoHS: N; PinCount: 5; Code_JEDEC: TO-261-AB; Code_IPC: SOT223-5; ComponentLink1Description: Manufacturer URL; ComponentLink1URL: http://www.national.com/; ComponentLink2Description: LP3874 Datasheet; ComponentLink2URL: http://www.national.com/ds/LP/LP3874.pdf; ComponentLink3Description: LP3874 Web Page; ComponentLink3URL: http://www.national.com/pf/LP/LP3874.html; ComponentLink4Description: MP05A Package Page; ComponentLink4URL: http://www.national.com/packaging/folders/mp05a.html
footprint MP05A_N (SOT223, 5-Leads, Body 6.5x3.5mm, Pitch 1.5mm, Lead Span 7mm, IPC Medium Density)
footprint MP05A_L (SOT223, 5-Leads, Body 6.5x3.5mm, Pitch 1.5mm, Lead Span 7mm, IPC High Density)
footprint MP05A_M (SOT223, 5-Leads, Body 6.5x3.5mm, Pitch 1.5mm, Lead Span 7mm, IPC Low Density)
pins: 1 ~{SD} (in), 2 IN (power), 3 OUT (power), 4 SNS (in), 5 GND (power)

## LP3874EMP-2.5/NOPB
designator U?
0.8A Fast Ultra Low Dropout Linear Regulators, 5-pin SOT-223, Pb-Free; PartNumber: LP3874EMP-2.5/NOPB; Manufacturer: National Semiconductor; PackageTopMarking: XYTT*LHFB; PowerWise: N; CompType: LDO IC; High-Reliability: Y; DatasheetVersion: Sep-2006; PackageVersion: revA, Jan-2000; PackageReference: MP05A; PackageDescription: Moldec SOT-223, 6.50 x 3.56 x 1.6mm Body, 5 Lead, 1.5mm Pitch; RoHS: Y; PinCount: 5; Code_JEDEC: TO-261-AB; Code_IPC: SOT223-5; ComponentLink1Description: Manufacturer URL; ComponentLink1URL: http://www.national.com/; ComponentLink2Description: LP3874 Datasheet; ComponentLink2URL: http://www.national.com/ds/LP/LP3874.pdf; ComponentLink3Description: LP3874 Web Page; ComponentLink3URL: http://www.national.com/pf/LP/LP3874.html; ComponentLink4Description: MP05A Package Page; ComponentLink4URL: http://www.national.com/packaging/folders/mp05a.html
footprint MP05A_N (SOT223, 5-Leads, Body 6.5x3.5mm, Pitch 1.5mm, Lead Span 7mm, IPC Medium Density)
footprint MP05A_L (SOT223, 5-Leads, Body 6.5x3.5mm, Pitch 1.5mm, Lead Span 7mm, IPC High Density)
footprint MP05A_M (SOT223, 5-Leads, Body 6.5x3.5mm, Pitch 1.5mm, Lead Span 7mm, IPC Low Density)
pins: 1 ~{SD} (in), 2 IN (power), 3 OUT (power), 4 SNS (in), 5 GND (power)

## LP3874EMP-3.3
designator U?
0.8A Fast Ultra Low Dropout Linear Regulators, 5-pin SOT-223; PartNumber: LP3874EMP-3.3; Manufacturer: National Semiconductor; PackageTopMarking: XYTT*LHHB; PowerWise: N; CompType: LDO IC; High-Reliability: Y; DatasheetVersion: Sep-2006; PackageVersion: revA, Jan-2000; PackageReference: MP05A; PackageDescription: Moldec SOT-223, 6.50 x 3.56 x 1.6mm Body, 5 Lead, 1.5mm Pitch; RoHS: N; PinCount: 5; Code_JEDEC: TO-261-AB; Code_IPC: SOT223-5; ComponentLink1Description: Manufacturer URL; ComponentLink1URL: http://www.national.com/; ComponentLink2Description: LP3874 Datasheet; ComponentLink2URL: http://www.national.com/ds/LP/LP3874.pdf; ComponentLink3Description: LP3874 Web Page; ComponentLink3URL: http://www.national.com/pf/LP/LP3874.html; ComponentLink4Description: MP05A Package Page; ComponentLink4URL: http://www.national.com/packaging/folders/mp05a.html
footprint MP05A_N (SOT223, 5-Leads, Body 6.5x3.5mm, Pitch 1.5mm, Lead Span 7mm, IPC Medium Density)
footprint MP05A_L (SOT223, 5-Leads, Body 6.5x3.5mm, Pitch 1.5mm, Lead Span 7mm, IPC High Density)
footprint MP05A_M (SOT223, 5-Leads, Body 6.5x3.5mm, Pitch 1.5mm, Lead Span 7mm, IPC Low Density)
pins: 1 ~{SD} (in), 2 IN (power), 3 OUT (power), 4 SNS (in), 5 GND (power)

## LP3874EMP-3.3/NOPB
designator U?
0.8A Fast Ultra Low Dropout Linear Regulators, 5-pin SOT-223, Pb-Free; PartNumber: LP3874EMP-3.3/NOPB; Manufacturer: National Semiconductor; PackageTopMarking: XYTT*LHHB; PowerWise: N; CompType: LDO IC; High-Reliability: Y; DatasheetVersion: Sep-2006; PackageVersion: revA, Jan-2000; PackageReference: MP05A; PackageDescription: Moldec SOT-223, 6.50 x 3.56 x 1.6mm Body, 5 Lead, 1.5mm Pitch; RoHS: Y; PinCount: 5; Code_JEDEC: TO-261-AB; Code_IPC: SOT223-5; ComponentLink1Description: Manufacturer URL; ComponentLink1URL: http://www.national.com/; ComponentLink2Description: LP3874 Datasheet; ComponentLink2URL: http://www.national.com/ds/LP/LP3874.pdf; ComponentLink3Description: LP3874 Web Page; ComponentLink3URL: http://www.national.com/pf/LP/LP3874.html; ComponentLink4Description: MP05A Package Page; ComponentLink4URL: http://www.national.com/packaging/folders/mp05a.html
footprint MP05A_N (SOT223, 5-Leads, Body 6.5x3.5mm, Pitch 1.5mm, Lead Span 7mm, IPC Medium Density)
footprint MP05A_L (SOT223, 5-Leads, Body 6.5x3.5mm, Pitch 1.5mm, Lead Span 7mm, IPC High Density)
footprint MP05A_M (SOT223, 5-Leads, Body 6.5x3.5mm, Pitch 1.5mm, Lead Span 7mm, IPC Low Density)
pins: 1 ~{SD} (in), 2 IN (power), 3 OUT (power), 4 SNS (in), 5 GND (power)

## LP3874EMP-5.0
designator U?
0.8A Fast Ultra Low Dropout Linear Regulators, 5-pin SOT-223; PartNumber: LP3874EMP-5.0; Manufacturer: National Semiconductor; PackageTopMarking: XYTT*LHJB; PowerWise: N; CompType: LDO IC; High-Reliability: Y; DatasheetVersion: Sep-2006; PackageVersion: revA, Jan-2000; PackageReference: MP05A; PackageDescription: Moldec SOT-223, 6.50 x 3.56 x 1.6mm Body, 5 Lead, 1.5mm Pitch; RoHS: N; PinCount: 5; Code_JEDEC: TO-261-AB; Code_IPC: SOT223-5; ComponentLink1Description: Manufacturer URL; ComponentLink1URL: http://www.national.com/; ComponentLink2Description: LP3874 Datasheet; ComponentLink2URL: http://www.national.com/ds/LP/LP3874.pdf; ComponentLink3Description: LP3874 Web Page; ComponentLink3URL: http://www.national.com/pf/LP/LP3874.html; ComponentLink4Description: MP05A Package Page; ComponentLink4URL: http://www.national.com/packaging/folders/mp05a.html
footprint MP05A_N (SOT223, 5-Leads, Body 6.5x3.5mm, Pitch 1.5mm, Lead Span 7mm, IPC Medium Density)
footprint MP05A_L (SOT223, 5-Leads, Body 6.5x3.5mm, Pitch 1.5mm, Lead Span 7mm, IPC High Density)
footprint MP05A_M (SOT223, 5-Leads, Body 6.5x3.5mm, Pitch 1.5mm, Lead Span 7mm, IPC Low Density)
pins: 1 ~{SD} (in), 2 IN (power), 3 OUT (power), 4 SNS (in), 5 GND (power)

## LP3874EMP-5.0/NOPB
designator U?
0.8A Fast Ultra Low Dropout Linear Regulators, 5-pin SOT-223, Pb-Free; PartNumber: LP3874EMP-5.0/NOPB; Manufacturer: National Semiconductor; PackageTopMarking: XYTT*LHJB; PowerWise: N; CompType: LDO IC; High-Reliability: Y; DatasheetVersion: Sep-2006; PackageVersion: revA, Jan-2000; PackageReference: MP05A; PackageDescription: Moldec SOT-223, 6.50 x 3.56 x 1.6mm Body, 5 Lead, 1.5mm Pitch; RoHS: Y; PinCount: 5; Code_JEDEC: TO-261-AB; Code_IPC: SOT223-5; ComponentLink1Description: Manufacturer URL; ComponentLink1URL: http://www.national.com/; ComponentLink2Description: LP3874 Datasheet; ComponentLink2URL: http://www.national.com/ds/LP/LP3874.pdf; ComponentLink3Description: LP3874 Web Page; ComponentLink3URL: http://www.national.com/pf/LP/LP3874.html; ComponentLink4Description: MP05A Package Page; ComponentLink4URL: http://www.national.com/packaging/folders/mp05a.html
footprint MP05A_N (SOT223, 5-Leads, Body 6.5x3.5mm, Pitch 1.5mm, Lead Span 7mm, IPC Medium Density)
footprint MP05A_L (SOT223, 5-Leads, Body 6.5x3.5mm, Pitch 1.5mm, Lead Span 7mm, IPC High Density)
footprint MP05A_M (SOT223, 5-Leads, Body 6.5x3.5mm, Pitch 1.5mm, Lead Span 7mm, IPC Low Density)
pins: 1 ~{SD} (in), 2 IN (power), 3 OUT (power), 4 SNS (in), 5 GND (power)

## LP3874EMP-ADJ
designator U?
0.8A Fast Ultra Low Dropout Linear Regulators, 5-pin SOT-223; PartNumber: LP3874EMP-ADJ; Manufacturer: National Semiconductor; PackageTopMarking: XYTT*LHKB; PowerWise: N; CompType: LDO IC; High-Reliability: Y; DatasheetVersion: Oct-2006; PackageVersion: revA, Jan-2000; PackageReference: MP05A; PackageDescription: Moldec SOT-223, 6.50 x 3.56 x 1.6mm Body, 5 Lead, 1.5mm Pitch; RoHS: N; PinCount: 5; Code_JEDEC: TO-261-AB; Code_IPC: SOT223-5; ComponentLink1Description: Manufacturer URL; ComponentLink1URL: http://www.national.com/; ComponentLink2Description: LP3874 Datasheet; ComponentLink2URL: http://www.national.com/ds/LP/LP3874-ADJ.pdf; ComponentLink3Description: LP3874 Web Page; ComponentLink3URL: http://www.national.com/pf/LP/LP3874.html; ComponentLink4Description: MP05A Package Page; ComponentLink4URL: http://www.national.com/packaging/folders/mp05a.html
footprint MP05A_N (SOT223, 5-Leads, Body 6.5x3.5mm, Pitch 1.5mm, Lead Span 7mm, IPC Medium Density)
footprint MP05A_L (SOT223, 5-Leads, Body 6.5x3.5mm, Pitch 1.5mm, Lead Span 7mm, IPC High Density)
footprint MP05A_M (SOT223, 5-Leads, Body 6.5x3.5mm, Pitch 1.5mm, Lead Span 7mm, IPC Low Density)
pins: 1 ~{SD} (in), 2 IN (power), 3 OUT (power), 4 ADJ (in), 5 GND (power)

## LP3874EMP-ADJ/NOPB
designator U?
0.8A Fast Ultra Low Dropout Linear Regulators, 5-pin SOT-223, Pb-Free; PartNumber: LP3874EMP-ADJ/NOPB; Manufacturer: National Semiconductor; PackageTopMarking: XYTT*LHKB; PowerWise: N; CompType: LDO IC; High-Reliability: Y; DatasheetVersion: Oct-2006; PackageVersion: revA, Jan-2000; PackageReference: MP05A; PackageDescription: Moldec SOT-223, 6.50 x 3.56 x 1.6mm Body, 5 Lead, 1.5mm Pitch; RoHS: Y; PinCount: 5; Code_JEDEC: TO-261-AB; Code_IPC: SOT223-5; ComponentLink1Description: Manufacturer URL; ComponentLink1URL: http://www.national.com/; ComponentLink2Description: LP3874 Datasheet; ComponentLink2URL: http://www.national.com/ds/LP/LP3874-ADJ.pdf; ComponentLink3Description: LP3874 Web Page; ComponentLink3URL: http://www.national.com/pf/LP/LP3874.html; ComponentLink4Description: MP05A Package Page; ComponentLink4URL: http://www.national.com/packaging/folders/mp05a.html
footprint MP05A_N (SOT223, 5-Leads, Body 6.5x3.5mm, Pitch 1.5mm, Lead Span 7mm, IPC Medium Density)
footprint MP05A_L (SOT223, 5-Leads, Body 6.5x3.5mm, Pitch 1.5mm, Lead Span 7mm, IPC High Density)
footprint MP05A_M (SOT223, 5-Leads, Body 6.5x3.5mm, Pitch 1.5mm, Lead Span 7mm, IPC Low Density)
pins: 1 ~{SD} (in), 2 IN (power), 3 OUT (power), 4 ADJ (in), 5 GND (power)

## LP3874EMPX-1.8
designator U?
0.8A Fast Ultra Low Dropout Linear Regulators, 5-pin SOT-223; PartNumber: LP3874EMPX-1.8; Manufacturer: National Semiconductor; PackageTopMarking: XYTT*LHEB; PowerWise: N; CompType: LDO IC; High-Reliability: Y; DatasheetVersion: Sep-2006; PackageVersion: revA, Jan-2000; PackageReference: MP05A; PackageDescription: Moldec SOT-223, 6.50 x 3.56 x 1.6mm Body, 5 Lead, 1.5mm Pitch; RoHS: N; PinCount: 5; Code_JEDEC: TO-261-AB; Code_IPC: SOT223-5; ComponentLink1Description: Manufacturer URL; ComponentLink1URL: http://www.national.com/; ComponentLink2Description: LP3874 Datasheet; ComponentLink2URL: http://www.national.com/ds/LP/LP3874.pdf; ComponentLink3Description: LP3874 Web Page; ComponentLink3URL: http://www.national.com/pf/LP/LP3874.html; ComponentLink4Description: MP05A Package Page; ComponentLink4URL: http://www.national.com/packaging/folders/mp05a.html
footprint MP05A_N (SOT223, 5-Leads, Body 6.5x3.5mm, Pitch 1.5mm, Lead Span 7mm, IPC Medium Density)
footprint MP05A_L (SOT223, 5-Leads, Body 6.5x3.5mm, Pitch 1.5mm, Lead Span 7mm, IPC High Density)
footprint MP05A_M (SOT223, 5-Leads, Body 6.5x3.5mm, Pitch 1.5mm, Lead Span 7mm, IPC Low Density)
pins: 1 ~{SD} (in), 2 IN (power), 3 OUT (power), 4 SNS (in), 5 GND (power)

## LP3874EMPX-2.5
designator U?
0.8A Fast Ultra Low Dropout Linear Regulators, 5-pin SOT-223; PartNumber: LP3874EMPX-2.5; Manufacturer: National Semiconductor; PackageTopMarking: XYTT*LHFB; PowerWise: N; CompType: LDO IC; High-Reliability: Y; DatasheetVersion: Sep-2006; PackageVersion: revA, Jan-2000; PackageReference: MP05A; PackageDescription: Moldec SOT-223, 6.50 x 3.56 x 1.6mm Body, 5 Lead, 1.5mm Pitch; RoHS: N; PinCount: 5; Code_JEDEC: TO-261-AB; Code_IPC: SOT223-5; ComponentLink1Description: Manufacturer URL; ComponentLink1URL: http://www.national.com/; ComponentLink2Description: LP3874 Datasheet; ComponentLink2URL: http://www.national.com/ds/LP/LP3874.pdf; ComponentLink3Description: LP3874 Web Page; ComponentLink3URL: http://www.national.com/pf/LP/LP3874.html; ComponentLink4Description: MP05A Package Page; ComponentLink4URL: http://www.national.com/packaging/folders/mp05a.html
footprint MP05A_N (SOT223, 5-Leads, Body 6.5x3.5mm, Pitch 1.5mm, Lead Span 7mm, IPC Medium Density)
footprint MP05A_L (SOT223, 5-Leads, Body 6.5x3.5mm, Pitch 1.5mm, Lead Span 7mm, IPC High Density)
footprint MP05A_M (SOT223, 5-Leads, Body 6.5x3.5mm, Pitch 1.5mm, Lead Span 7mm, IPC Low Density)
pins: 1 ~{SD} (in), 2 IN (power), 3 OUT (power), 4 SNS (in), 5 GND (power)

## LP3874EMPX-3.3
designator U?
0.8A Fast Ultra Low Dropout Linear Regulators, 5-pin SOT-223; PartNumber: LP3874EMPX-3.3; Manufacturer: National Semiconductor; PackageTopMarking: XYTT*LHHB; PowerWise: N; CompType: LDO IC; High-Reliability: Y; DatasheetVersion: Sep-2006; PackageVersion: revA, Jan-2000; PackageReference: MP05A; PackageDescription: Moldec SOT-223, 6.50 x 3.56 x 1.6mm Body, 5 Lead, 1.5mm Pitch; RoHS: N; PinCount: 5; Code_JEDEC: TO-261-AB; Code_IPC: SOT223-5; ComponentLink1Description: Manufacturer URL; ComponentLink1URL: http://www.national.com/; ComponentLink2Description: LP3874 Datasheet; ComponentLink2URL: http://www.national.com/ds/LP/LP3874.pdf; ComponentLink3Description: LP3874 Web Page; ComponentLink3URL: http://www.national.com/pf/LP/LP3874.html; ComponentLink4Description: MP05A Package Page; ComponentLink4URL: http://www.national.com/packaging/folders/mp05a.html
footprint MP05A_N (SOT223, 5-Leads, Body 6.5x3.5mm, Pitch 1.5mm, Lead Span 7mm, IPC Medium Density)
footprint MP05A_L (SOT223, 5-Leads, Body 6.5x3.5mm, Pitch 1.5mm, Lead Span 7mm, IPC High Density)
footprint MP05A_M (SOT223, 5-Leads, Body 6.5x3.5mm, Pitch 1.5mm, Lead Span 7mm, IPC Low Density)
pins: 1 ~{SD} (in), 2 IN (power), 3 OUT (power), 4 SNS (in), 5 GND (power)

## LP3874EMPX-5.0
designator U?
0.8A Fast Ultra Low Dropout Linear Regulators, 5-pin SOT-223; PartNumber: LP3874EMPX-5.0; Manufacturer: National Semiconductor; PackageTopMarking: XYTT*LHJB; PowerWise: N; CompType: LDO IC; High-Reliability: Y; DatasheetVersion: Sep-2006; PackageVersion: revA, Jan-2000; PackageReference: MP05A; PackageDescription: Moldec SOT-223, 6.50 x 3.56 x 1.6mm Body, 5 Lead, 1.5mm Pitch; RoHS: N; PinCount: 5; Code_JEDEC: TO-261-AB; Code_IPC: SOT223-5; ComponentLink1Description: Manufacturer URL; ComponentLink1URL: http://www.national.com/; ComponentLink2Description: LP3874 Datasheet; ComponentLink2URL: http://www.national.com/ds/LP/LP3874.pdf; ComponentLink3Description: LP3874 Web Page; ComponentLink3URL: http://www.national.com/pf/LP/LP3874.html; ComponentLink4Description: MP05A Package Page; ComponentLink4URL: http://www.national.com/packaging/folders/mp05a.html
footprint MP05A_N (SOT223, 5-Leads, Body 6.5x3.5mm, Pitch 1.5mm, Lead Span 7mm, IPC Medium Density)
footprint MP05A_L (SOT223, 5-Leads, Body 6.5x3.5mm, Pitch 1.5mm, Lead Span 7mm, IPC High Density)
footprint MP05A_M (SOT223, 5-Leads, Body 6.5x3.5mm, Pitch 1.5mm, Lead Span 7mm, IPC Low Density)
pins: 1 ~{SD} (in), 2 IN (power), 3 OUT (power), 4 SNS (in), 5 GND (power)

## LP3874EMPX-ADJ
designator U?
0.8A Fast Ultra Low Dropout Linear Regulators, 5-pin SOT-223; PartNumber: LP3874EMPX-ADJ; Manufacturer: National Semiconductor; PackageTopMarking: XYTT*LHKB; PowerWise: N; CompType: LDO IC; High-Reliability: Y; DatasheetVersion: Oct-2006; PackageVersion: revA, Jan-2000; PackageReference: MP05A; PackageDescription: Moldec SOT-223, 6.50 x 3.56 x 1.6mm Body, 5 Lead, 1.5mm Pitch; RoHS: N; PinCount: 5; Code_JEDEC: TO-261-AB; Code_IPC: SOT223-5; ComponentLink1Description: Manufacturer URL; ComponentLink1URL: http://www.national.com/; ComponentLink2Description: LP3874 Datasheet; ComponentLink2URL: http://www.national.com/ds/LP/LP3874-ADJ.pdf; ComponentLink3Description: LP3874 Web Page; ComponentLink3URL: http://www.national.com/pf/LP/LP3874.html; ComponentLink4Description: MP05A Package Page; ComponentLink4URL: http://www.national.com/packaging/folders/mp05a.html
footprint MP05A_N (SOT223, 5-Leads, Body 6.5x3.5mm, Pitch 1.5mm, Lead Span 7mm, IPC Medium Density)
footprint MP05A_L (SOT223, 5-Leads, Body 6.5x3.5mm, Pitch 1.5mm, Lead Span 7mm, IPC High Density)
footprint MP05A_M (SOT223, 5-Leads, Body 6.5x3.5mm, Pitch 1.5mm, Lead Span 7mm, IPC Low Density)
pins: 1 ~{SD} (in), 2 IN (power), 3 OUT (power), 4 ADJ (in), 5 GND (power)

## LP3874ES-2.5
designator U?
0.8A Fast Ultra Low Dropout Linear Regulators, 5-pin TO-263; PartNumber: LP3874ES-2.5; Manufacturer: National Semiconductor; PackageTopMarking: NSUZXYTTE#*LP3874ES*-2.5; PowerWise: N; CompType: LDO IC; High-Reliability: Y; DatasheetVersion: Sep-2006; PackageVersion: revD, Apr-2005; PackageReference: TS5B; PackageDescription: TO-263, Molded, .400 x .390 x .180in, 5 Lead, .067in Pitch, Surface Mount; RoHS: N; PinCount: 5; Code_JEDEC: MO-169-AB; ComponentLink1Description: Manufacturer URL; ComponentLink1URL: http://www.national.com/; ComponentLink2Description: LP3874 Datasheet; ComponentLink2URL: http://www.national.com/ds/LP/LP3874.pdf; ComponentLink3Description: LP3874 Web Page; ComponentLink3URL: http://www.national.com/pf/LP/LP3874.html; ComponentLink4Description: TS5B Package Page; ComponentLink4URL: http://www.national.com/packaging/folders/ts5b.html
footprint TS5B_N (D2-PAK, 6-Leads, Body 8.6x10.2mm, Pitch 1.7mm, Lead Span 14.1mm, IPC Medium Density)
footprint TS5B_L (D2-PAK, 6-Leads, Body 8.6x10.2mm, Pitch 1.7mm, Lead Span 14.1mm, IPC High Density)
footprint TS5B_M (D2-PAK, 6-Leads, Body 8.6x10.2mm, Pitch 1.7mm, Lead Span 14.1mm, IPC Low Density)
pins: 1 ~{SD} (in), 2 IN (power), 3 GND (power), 4 OUT (power), 5 SNS (in), 6 TAB (power)

## LP3874ES-2.5/NOPB
designator U?
0.8A Fast Ultra Low Dropout Linear Regulators, 5-pin TO-263, Pb-Free; PartNumber: LP3874ES-2.5/NOPB; Manufacturer: National Semiconductor; PackageTopMarking: NSUZXYTTE#*LP3874ES*-2.5; PowerWise: N; CompType: LDO IC; High-Reliability: Y; DatasheetVersion: Sep-2006; PackageVersion: revD, Apr-2005; PackageReference: TS5B; PackageDescription: TO-263, Molded, .400 x .390 x .180in, 5 Lead, .067in Pitch, Surface Mount; RoHS: Y; PinCount: 5; Code_JEDEC: MO-169-AB; ComponentLink1Description: Manufacturer URL; ComponentLink1URL: http://www.national.com/; ComponentLink2Description: LP3874 Datasheet; ComponentLink2URL: http://www.national.com/ds/LP/LP3874.pdf; ComponentLink3Description: LP3874 Web Page; ComponentLink3URL: http://www.national.com/pf/LP/LP3874.html; ComponentLink4Description: TS5B Package Page; ComponentLink4URL: http://www.national.com/packaging/folders/ts5b.html
footprint TS5B_N (D2-PAK, 6-Leads, Body 8.6x10.2mm, Pitch 1.7mm, Lead Span 14.1mm, IPC Medium Density)
footprint TS5B_L (D2-PAK, 6-Leads, Body 8.6x10.2mm, Pitch 1.7mm, Lead Span 14.1mm, IPC High Density)
footprint TS5B_M (D2-PAK, 6-Leads, Body 8.6x10.2mm, Pitch 1.7mm, Lead Span 14.1mm, IPC Low Density)
pins: 1 ~{SD} (in), 2 IN (power), 3 GND (power), 4 OUT (power), 5 SNS (in), 6 TAB (power)

## LP3874ES-3.3
designator U?
0.8A Fast Ultra Low Dropout Linear Regulators, 5-pin TO-263; PartNumber: LP3874ES-3.3; Manufacturer: National Semiconductor; PackageTopMarking: NSUZXYTTE#*LP3874ES*-3.3; PowerWise: N; CompType: LDO IC; High-Reliability: Y; DatasheetVersion: Sep-2006; PackageVersion: revD, Apr-2005; PackageReference: TS5B; PackageDescription: TO-263, Molded, .400 x .390 x .180in, 5 Lead, .067in Pitch, Surface Mount; RoHS: N; PinCount: 5; Code_JEDEC: MO-169-AB; ComponentLink1Description: Manufacturer URL; ComponentLink1URL: http://www.national.com/; ComponentLink2Description: LP3874 Datasheet; ComponentLink2URL: http://www.national.com/ds/LP/LP3874.pdf; ComponentLink3Description: LP3874 Web Page; ComponentLink3URL: http://www.national.com/pf/LP/LP3874.html; ComponentLink4Description: TS5B Package Page; ComponentLink4URL: http://www.national.com/packaging/folders/ts5b.html
footprint TS5B_N (D2-PAK, 6-Leads, Body 8.6x10.2mm, Pitch 1.7mm, Lead Span 14.1mm, IPC Medium Density)
footprint TS5B_L (D2-PAK, 6-Leads, Body 8.6x10.2mm, Pitch 1.7mm, Lead Span 14.1mm, IPC High Density)
footprint TS5B_M (D2-PAK, 6-Leads, Body 8.6x10.2mm, Pitch 1.7mm, Lead Span 14.1mm, IPC Low Density)
pins: 1 ~{SD} (in), 2 IN (power), 3 GND (power), 4 OUT (power), 5 SNS (in), 6 TAB (power)

## LP3874ES-3.3/NOPB
designator U?
0.8A Fast Ultra Low Dropout Linear Regulators, 5-pin TO-263, Pb-Free; PartNumber: LP3874ES-3.3/NOPB; Manufacturer: National Semiconductor; PackageTopMarking: NSUZXYTTE#*LP3874ES*-3.3; PowerWise: N; CompType: LDO IC; High-Reliability: Y; DatasheetVersion: Sep-2006; PackageVersion: revD, Apr-2005; PackageReference: TS5B; PackageDescription: TO-263, Molded, .400 x .390 x .180in, 5 Lead, .067in Pitch, Surface Mount; RoHS: Y; PinCount: 5; Code_JEDEC: MO-169-AB; ComponentLink1Description: Manufacturer URL; ComponentLink1URL: http://www.national.com/; ComponentLink2Description: LP3874 Datasheet; ComponentLink2URL: http://www.national.com/ds/LP/LP3874.pdf; ComponentLink3Description: LP3874 Web Page; ComponentLink3URL: http://www.national.com/pf/LP/LP3874.html; ComponentLink4Description: TS5B Package Page; ComponentLink4URL: http://www.national.com/packaging/folders/ts5b.html
footprint TS5B_N (D2-PAK, 6-Leads, Body 8.6x10.2mm, Pitch 1.7mm, Lead Span 14.1mm, IPC Medium Density)
footprint TS5B_L (D2-PAK, 6-Leads, Body 8.6x10.2mm, Pitch 1.7mm, Lead Span 14.1mm, IPC High Density)
footprint TS5B_M (D2-PAK, 6-Leads, Body 8.6x10.2mm, Pitch 1.7mm, Lead Span 14.1mm, IPC Low Density)
pins: 1 ~{SD} (in), 2 IN (power), 3 GND (power), 4 OUT (power), 5 SNS (in), 6 TAB (power)